# Altium schematic symbol library NRF9160-SIAA-R7.Schlib: 1 symbol
Pins are listed as number, name and electrical type; pins without a type are passive.

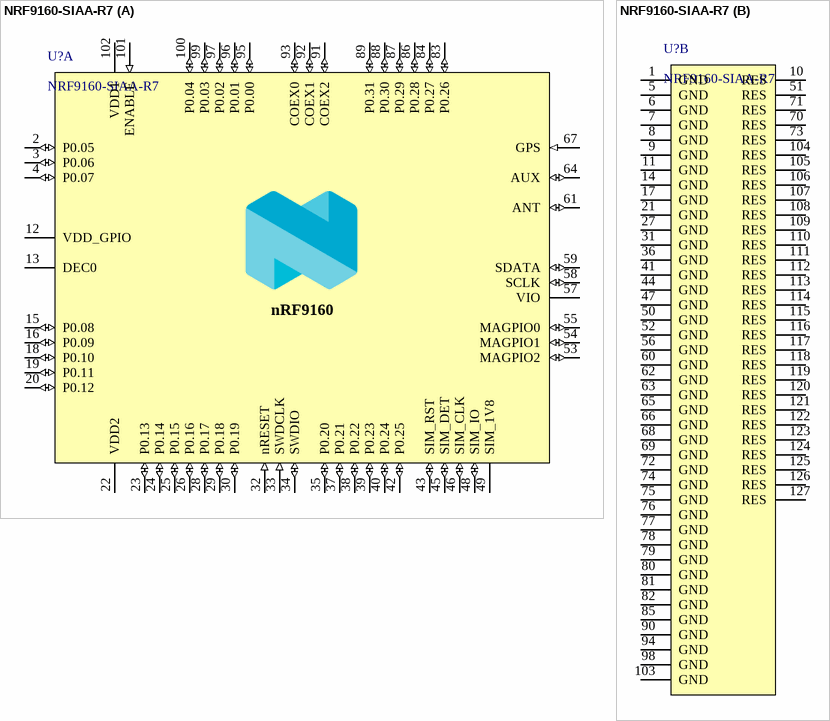
[diagram p0: symbol NRF9160-SIAA-R7]

## NRF9160-SIAA-R7
designator U?
IC RF TxRx + MCU Cellular GPS 700MHz ~ 2.2GHz 161-TFLGA Module
part A pins: 2 P0.05 (io), 3 P0.06 (io), 4 P0.07 (io), 12 VDD_GPIO (power), 13 DEC0 (power), 15 P0.08 (io), 16 P0.09 (io), 18 P0.10 (io), 19 P0.11 (io), 20 P0.12 (io), 22 VDD2 (power), 23 P0.13 (io), 24 P0.14 (io), 25 P0.15 (io), 26 P0.16 (io), 28 P0.17 (io), 29 P0.18 (io), 30 P0.19 (io), 32 nRESET (in), 33 SWDCLK (in), 34 SWDIO (io), 35 P0.20 (io), 37 P0.21 (io), 38 P0.22 (io), 39 P0.23 (io), 40 P0.24 (io), 42 P0.25 (io), 43 SIM_RST (io), 45 SIM_DET (io), 46 SIM_CLK (io), 48 SIM_IO (io), 49 SIM_1V8 (power), 53 MAGPIO2 (io), 54 MAGPIO1 (io), 55 MAGPIO0 (io), 57 VIO (power), 58 SCLK (io), 59 SDATA (io), 61 ANT (io), 64 AUX (io), 67 GPS (in), 83 P0.26 (io), 84 P0.27 (io), 86 P0.28 (io), 87 P0.29 (io), 88 P0.30 (io), 89 P0.31 (io), 91 COEX2 (io), 92 COEX1 (io), 93 COEX0 (io), 95 P0.00 (io), 96 P0.01 (io), 97 P0.02 (io), 99 P0.03 (io), 100 P0.04 (io), 101 ENABLE (in), 102 VDD1 (power)
part B pins: 1 GND (power), 5 GND (power), 6 GND, 7 GND, 8 GND, 9 GND (power), 10 RES, 11 GND, 14 GND (power), 17 GND (power), 21 GND (power), 27 GND (power), 31 GND (power), 36 GND (power), 41 GND (power), 44 GND (power), 47 GND (power), 50 GND (power), 51 RES, 52 GND (power), 56 GND (power), 60 GND (power), 62 GND (power), 63 GND (power), 65 GND (power), 66 GND (power), 68 GND, 69 GND, 70 RES, 71 RES, 72 GND (power), 73 RES, 74 GND (power), 75 GND (power), 76 GND (power), 77 GND (power), 78 GND (power), 79 GND (power), 80 GND (power), 81 GND (power), 82 GND (power), 85 GND (power), 90 GND (power), 94 GND (power), 98 GND (power), 103 GND (power), 104 RES, 105 RES, 106 RES, 107 RES, 108 RES, 109 RES, 110 RES, 111 RES, 112 RES, 113 RES, 114 RES, 115 RES, 116 RES, 117 RES, 118 RES, 119 RES, 120 RES, 121 RES, 122 RES, 123 RES, 124 RES, 125 RES, 126 RES, 127 RES
part A text: nRF9160